# Altium schematic symbol library MUSBRM1C1M0 USBC.SchLib: 3 symbols
Pins are listed as number, name and electrical type; pins without a type are passive.

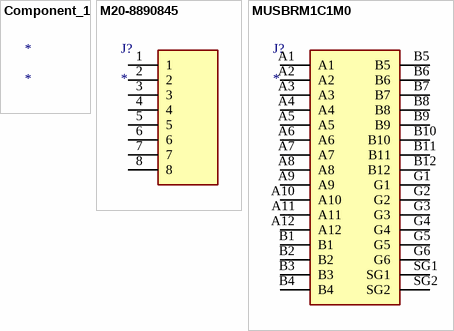
[diagram p0: symbols Component_1 to MUSBRM1C1M0]

## Component_1
designator *

## M20-8890845
designator J?
Connector; Manufacturer_Name: Harwin; Manufacturer_Part_Number: M20-8890845; Description: 2.54mm (0.1") Pitch SIL SMT Horizontal Pin Header; Datasheet Link: https://cdn.harwin.com/pdfs/M20-889.pdf; Mouser Part Number: 855-M20-8890845; Mouser Price/Stock: https://www.mouser.co.uk/ProductDetail/Harwin/M20-8890845?qs=k41KVqW3ymqbj55BP%2FIx8Q%3D%3D
footprint M208890845
pins: 1, 2, 3, 4, 5, 6, 7, 8

## MUSBRM1C1M0
designator J?
Connector; Manufacturer_Name: Amphenol; Manufacturer_Part_Number: MUSBRM1C1M0; Description: CONN RCPT TYPEC 24POS PCB R/A; Datasheet Link: http://www.amphenol-icc.com/media/wysiwyg/files/drawing/musbrm1c1xx.pdf; Height: 6.15mm; Mouser Part Number: 523-MUSBRM1C1M0; Mouser Price/Stock: https://www.mouser.co.uk/ProductDetail/Amphenol-Commercial-Products/MUSBRM1C1M0?qs=z4I1WACWgPTQVfMzr4eSOQ%3D%3D; Arrow Part Number: MUSBRM1C1M0; Arrow Price/Stock: https://www.arrow.com/en/products/musbrm1c1m0/amphenol-fci?region=europe
footprint MUSBRM1C1M0
pins: A1, A2, A3, A4, A5, A6, A7, A8, A9, A10, A11, A12, B1, B2, B3, B4, B5, B6, B7, B8, B9, B10, B11, B12, G1, G2, G3, G4, G5, G6, SG1, SG2